# Altium schematic symbol library Socket Header WR-PHD_2.00 mm.SchLib: 62 symbols
Pins are listed as number, name and electrical type; pins without a type are passive.

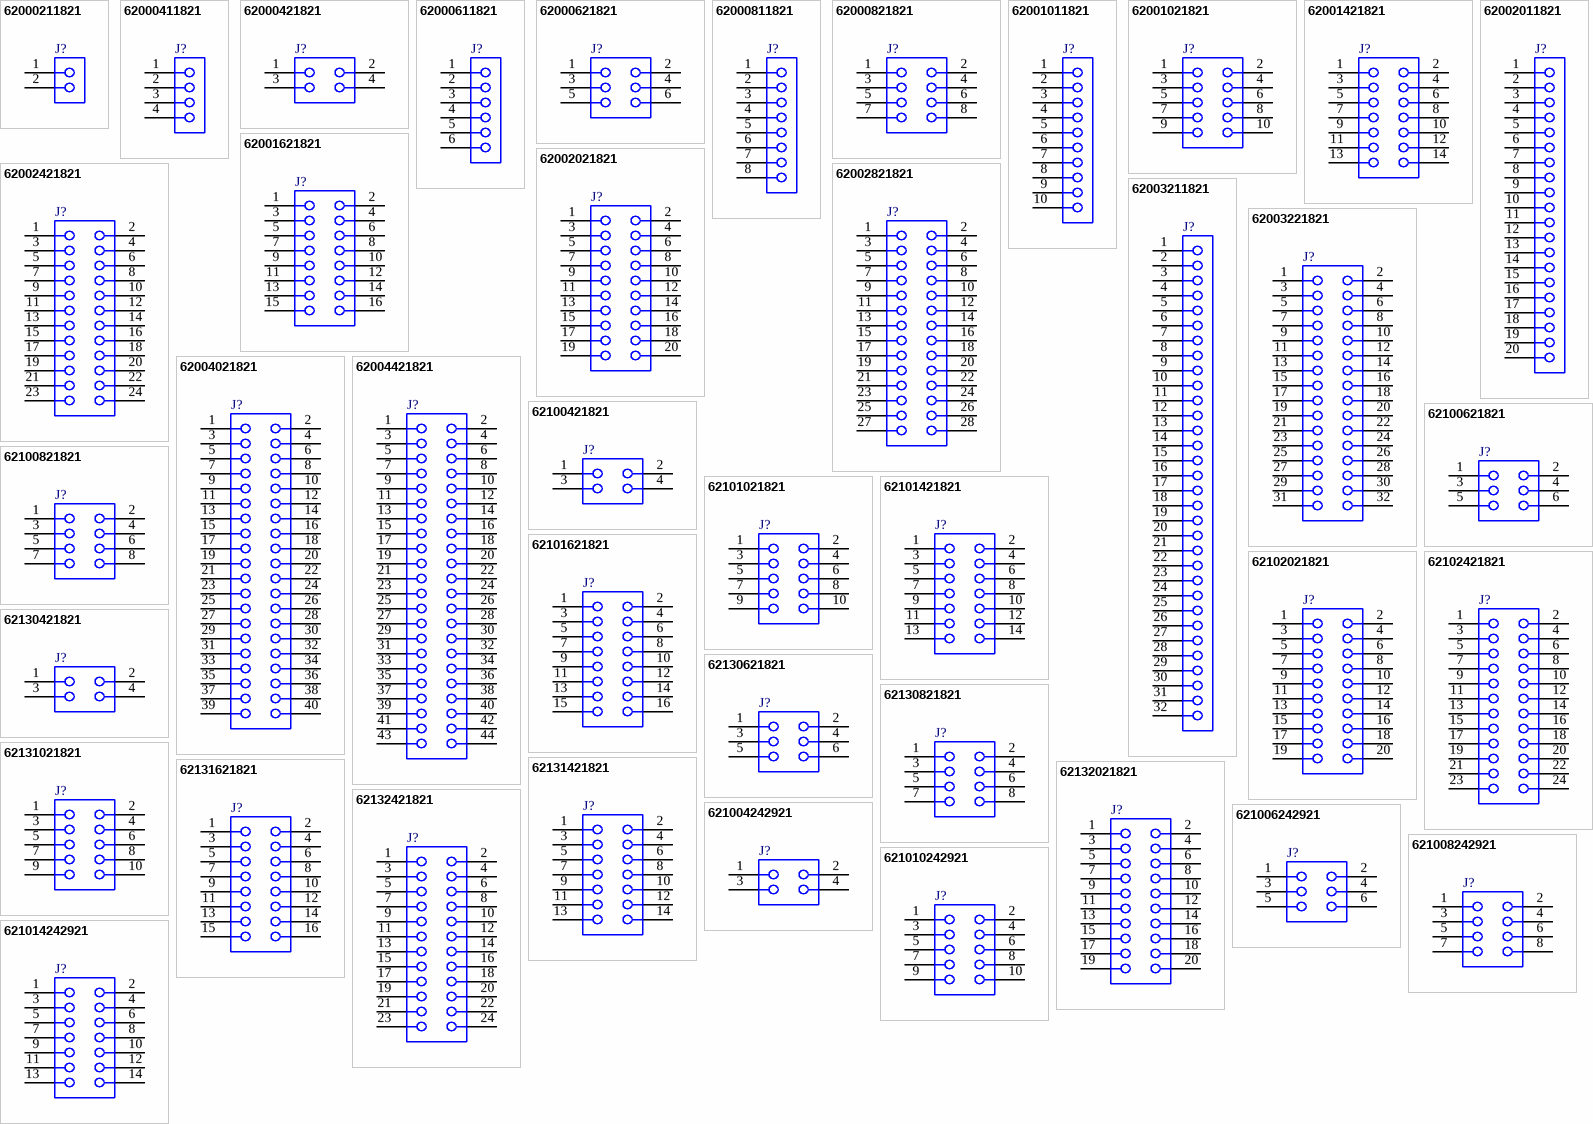
[diagram p0: symbols 62000211821 to 621014242921]

## 62000211821
designator J?
THT Vertical Socket Header WR-PHD, Pitch 2.00 mm, Single Row, 2 pins; Part Number: 62000211821; Pin Number: 2; Pitch: 2.00 mm; Gender: Female; Rated Current: 2 A; Working Voltage: 250 VAC; Withstanding Voltage: 500 VAC; Contact Resistance: 20 mOhm; ComponentLink1Description: Manufacturer; ComponentLink1URL: http://www.we-online.de; ComponentLink2Description: Datasheet; ComponentLink2URL: https://katalog.we-online.de/em/datasheet/62000211821.pdf; Published Date: August 2018; Publisher: Wurth Elektronik; Operating Temperature: -40 to 105 degC; Mounting Technology: THT; Packaging: Tube; Row Number: Single; Orientation: Vertical
footprint 62000211821 (Socket Header, Pitch 2.00 mm, THT, Vertical, single row, 2p)
pins: 1, 2

## 62000411821
designator J?
THT Vertical Socket Header WR-PHD, Pitch 2.00 mm, Single Row, 4 pins; Part Number: 62000411821; Pin Number: 4; Pitch: 2.00 mm; Gender: Female; Rated Current: 2 A; Working Voltage: 250 VAC; Withstanding Voltage: 500 VAC; Contact Resistance: 20 mOhm; ComponentLink1Description: Manufacturer; ComponentLink1URL: http://www.we-online.de; ComponentLink2Description: Datasheet; ComponentLink2URL: https://katalog.we-online.de/em/datasheet/62000411821.pdf; Published Date: August 2018; Publisher: Wurth Elektronik; Operating Temperature: -40 to 105 degC; Mounting Technology: THT; Packaging: Tube; Row Number: Single; Orientation: Vertical
footprint 62000411821
pins: 1, 2, 3, 4

## 62000421821
designator J?
THT Vertical Socket Header WR-PHD, Pitch 2.00 mm, Dual Row, 4 pins; Part Number: 62000421821; Pin Number: 4; Pitch: 2.00 mm; Gender: Female; Rated Current: 2 A; Working Voltage: 250 VAC; Withstanding Voltage: 500 VAC; Contact Resistance: 20 mOhm; ComponentLink1Description: Manufacturer; ComponentLink1URL: http://www.we-online.de; ComponentLink2Description: Datasheet; ComponentLink2URL: https://katalog.we-online.de/em/datasheet/62000421821.pdf; Published Date: August 2018; Publisher: Wurth Elektronik; Operating Temperature: -40 to 105 degC; Mounting Technology: THT; Packaging: Tube; Row Number: Dual; Orientation: Vertical
footprint 62000421821
pins: 1, 2, 3, 4

## 62000611821
designator J?
THT Vertical Socket Header WR-PHD, Pitch 2.00 mm, Single Row, 6 pins; Part Number: 62000611821; Pin Number: 6; Pitch: 2.00 mm; Gender: Female; Rated Current: 2 A; Working Voltage: 250 VAC; Withstanding Voltage: 500 VAC; Contact Resistance: 20 mOhm; ComponentLink1Description: Manufacturer; ComponentLink1URL: http://www.we-online.de; ComponentLink2Description: Datasheet; ComponentLink2URL: https://katalog.we-online.de/em/datasheet/62000611821.pdf; Published Date: August 2018; Publisher: Wurth Elektronik; Operating Temperature: -40 to 105 degC; Mounting Technology: THT; Packaging: Tube; Row Number: Single; Orientation: Vertical
footprint 62000611821
pins: 1, 2, 3, 4, 5, 6

## 62000621821
designator J?
THT Vertical Socket Header WR-PHD, Pitch 2.00 mm, Dual Row, 6 pins; Part Number: 62000621821; Pin Number: 6; Pitch: 2.00 mm; Gender: Female; Rated Current: 2 A; Working Voltage: 250 VAC; Withstanding Voltage: 500 VAC; Contact Resistance: 20 mOhm; ComponentLink1Description: Manufacturer; ComponentLink1URL: http://www.we-online.de; ComponentLink2Description: Datasheet; ComponentLink2URL: https://katalog.we-online.de/em/datasheet/62000621821.pdf; Published Date: August 2018; Publisher: Wurth Elektronik; Operating Temperature: -40 to 105 degC; Mounting Technology: THT; Packaging: Tube; Row Number: Dual; Orientation: Vertical
footprint 62000621821
pins: 1, 2, 3, 4, 5, 6

## 62000811821
designator J?
THT Vertical Socket Header WR-PHD, Pitch 2.00 mm, Single Row, 8 pins; Part Number: 62000811821; Pin Number: 8; Pitch: 2.00 mm; Gender: Female; Rated Current: 2 A; Working Voltage: 250 VAC; Withstanding Voltage: 500 VAC; Contact Resistance: 20 mOhm; ComponentLink1Description: Manufacturer; ComponentLink1URL: http://www.we-online.de; ComponentLink2Description: Datasheet; ComponentLink2URL: https://katalog.we-online.de/em/datasheet/62000811821.pdf; Published Date: August 2018; Publisher: Wurth Elektronik; Operating Temperature: -40 to 105 degC; Mounting Technology: THT; Packaging: Tube; Row Number: Single; Orientation: Vertical
footprint 62000811821
pins: 1, 2, 3, 4, 5, 6, 7, 8

## 62000821821
designator J?
THT Vertical Socket Header WR-PHD, Pitch 2.00 mm, Dual Row, 8 pins; Part Number: 62000821821; Pin Number: 8; Pitch: 2.00 mm; Gender: Female; Rated Current: 2 A; Working Voltage: 250 VAC; Withstanding Voltage: 500 VAC; Contact Resistance: 20 mOhm; ComponentLink1Description: Manufacturer; ComponentLink1URL: http://www.we-online.de; ComponentLink2Description: Datasheet; ComponentLink2URL: https://katalog.we-online.de/em/datasheet/62000821821.pdf; Published Date: August 2018; Publisher: Wurth Elektronik; Operating Temperature: -40 to 105 degC; Mounting Technology: THT; Packaging: Tube; Row Number: Dual; Orientation: Vertical
footprint 62000821821
pins: 1, 2, 3, 4, 5, 6, 7, 8

## 62001011821
designator J?
THT Vertical Socket Header WR-PHD, Pitch 2.00 mm, Single Row, 10 pins; Part Number: 62001011821; Pin Number: 10; Pitch: 2.00 mm; Gender: Female; Rated Current: 2 A; Working Voltage: 250 VAC; Withstanding Voltage: 500 VAC; Contact Resistance: 20 mOhm; ComponentLink1Description: Manufacturer; ComponentLink1URL: http://www.we-online.de; ComponentLink2Description: Datasheet; ComponentLink2URL: https://katalog.we-online.de/em/datasheet/62001011821.pdf; Published Date: August 2018; Publisher: Wurth Elektronik; Operating Temperature: -40 to 105 degC; Mounting Technology: THT; Packaging: Tube; Row Number: Single; Orientation: Vertical
footprint 62001011821
pins: 1, 2, 3, 4, 5, 6, 7, 8, 9, 10

## 62001021821
designator J?
THT Vertical Socket Header WR-PHD, Pitch 2.00 mm, Dual Row, 10 pins; Part Number: 62001021821; Pin Number: 10; Pitch: 2.00 mm; Gender: Female; Rated Current: 2 A; Working Voltage: 250 VAC; Withstanding Voltage: 500 VAC; Contact Resistance: 20 mOhm; ComponentLink1Description: Manufacturer; ComponentLink1URL: http://www.we-online.de; ComponentLink2Description: Datasheet; ComponentLink2URL: https://katalog.we-online.de/em/datasheet/62001021821.pdf; Published Date: August 2018; Publisher: Wurth Elektronik; Operating Temperature: -40 to 105 degC; Mounting Technology: THT; Packaging: Tube; Row Number: Dual; Orientation: Vertical
footprint 62001021821
pins: 1, 2, 3, 4, 5, 6, 7, 8, 9, 10

## 62001421821
designator J?
THT Vertical Socket Header WR-PHD, Pitch 2.00 mm, Dual Row, 14 pins; Part Number: 62001421821; Pin Number: 14; Pitch: 2.00 mm; Gender: Female; Rated Current: 2 A; Working Voltage: 250 VAC; Withstanding Voltage: 500 VAC; Contact Resistance: 20 mOhm; ComponentLink1Description: Manufacturer; ComponentLink1URL: http://www.we-online.de; ComponentLink2Description: Datasheet; ComponentLink2URL: https://katalog.we-online.de/em/datasheet/62001421821.pdf; Published Date: August 2018; Publisher: Wurth Elektronik; Operating Temperature: -40 to 105 degC; Mounting Technology: THT; Packaging: Tube; Row Number: Dual; Orientation: Vertical
footprint 62001421821
pins: 1, 2, 3, 4, 5, 6, 7, 8, 9, 10, 11, 12, 13, 14

## 62001621821
designator J?
THT Vertical Socket Header WR-PHD, Pitch 2.00 mm, Dual Row, 16 pins; Part Number: 62001621821; Pin Number: 16; Pitch: 2.00 mm; Gender: Female; Rated Current: 2 A; Working Voltage: 250 VAC; Withstanding Voltage: 500 VAC; Contact Resistance: 20 mOhm; ComponentLink1Description: Manufacturer; ComponentLink1URL: http://www.we-online.de; ComponentLink2Description: Datasheet; ComponentLink2URL: https://katalog.we-online.de/em/datasheet/62001621821.pdf; Published Date: August 2018; Publisher: Wurth Elektronik; Operating Temperature: -40 to 105 degC; Mounting Technology: THT; Packaging: Tube; Row Number: Dual; Orientation: Vertical
footprint 62001621821
pins: 1, 2, 3, 4, 5, 6, 7, 8, 9, 10, 11, 12, 13, 14, 15, 16

## 62002011821
designator J?
THT Vertical Socket Header WR-PHD, Pitch 2.00 mm, Single Row, 20 pins; Part Number: 62002011821; Pin Number: 20; Pitch: 2.00 mm; Gender: Female; Rated Current: 2 A; Working Voltage: 250 VAC; Withstanding Voltage: 500 VAC; Contact Resistance: 20 mOhm; ComponentLink1Description: Manufacturer; ComponentLink1URL: http://www.we-online.de; ComponentLink2Description: Datasheet; ComponentLink2URL: https://katalog.we-online.de/em/datasheet/62002011821.pdf; Published Date: August 2018; Publisher: Wurth Elektronik; Operating Temperature: -40 to 105 degC; Mounting Technology: THT; Packaging: Tube; Row Number: Single; Orientation: Vertical
footprint 62002011821
pins: 1, 2, 3, 4, 5, 6, 7, 8, 9, 10, 11, 12, 13, 14, 15, 16, 17, 18, 19, 20

## 62002021821
designator J?
THT Vertical Socket Header WR-PHD, Pitch 2.00 mm, Dual Row, 20 pins; Part Number: 62002021821; Pin Number: 20; Pitch: 2.00 mm; Gender: Female; Rated Current: 2 A; Working Voltage: 250 VAC; Withstanding Voltage: 500 VAC; Contact Resistance: 20 mOhm; ComponentLink1Description: Manufacturer; ComponentLink1URL: http://www.we-online.de; ComponentLink2Description: Datasheet; ComponentLink2URL: https://katalog.we-online.de/em/datasheet/62002021821.pdf; Published Date: August 2018; Publisher: Wurth Elektronik; Operating Temperature: -40 to 105 degC; Mounting Technology: THT; Packaging: Tube; Row Number: Dual; Orientation: Vertical
footprint 62002021821
pins: 1, 2, 3, 4, 5, 6, 7, 8, 9, 10, 11, 12, 13, 14, 15, 16, 17, 18, 19, 20

## 62002421821
designator J?
THT Vertical Socket Header WR-PHD, Pitch 2.00 mm, Dual Row, 24 pins; Part Number: 62002421821; Pin Number: 24; Pitch: 2.00 mm; Gender: Female; Rated Current: 2 A; Working Voltage: 250 VAC; Withstanding Voltage: 500 VAC; Contact Resistance: 20 mOhm; ComponentLink1Description: Manufacturer; ComponentLink1URL: http://www.we-online.de; ComponentLink2Description: Datasheet; ComponentLink2URL: https://katalog.we-online.de/em/datasheet/62002421821.pdf; Published Date: August 2018; Publisher: Wurth Elektronik; Operating Temperature: -40 to 105 degC; Mounting Technology: THT; Packaging: Tube; Row Number: Dual; Orientation: Vertical
footprint 62002421821
pins: 1, 2, 3, 4, 5, 6, 7, 8, 9, 10, 11, 12, 13, 14, 15, 16, 17, 18, 19, 20, 21, 22, 23, 24

## 62002821821
designator J?
THT Vertical Socket Header WR-PHD, Pitch 2.00 mm, Dual Row, 28 pins; Part Number: 62002821821; Pin Number: 28; Pitch: 2.00 mm; Gender: Female; Rated Current: 2 A; Working Voltage: 250 VAC; Withstanding Voltage: 500 VAC; Contact Resistance: 20 mOhm; ComponentLink1Description: Manufacturer; ComponentLink1URL: http://www.we-online.de; ComponentLink2Description: Datasheet; ComponentLink2URL: https://katalog.we-online.de/em/datasheet/62002821821.pdf; Published Date: August 2018; Publisher: Wurth Elektronik; Operating Temperature: -40 to 105 degC; Mounting Technology: THT; Packaging: Tube; Row Number: Dual; Orientation: Vertical
footprint 62002821821
pins: 1, 2, 3, 4, 5, 6, 7, 8, 9, 10, 11, 12, 13, 14, 15, 16, 17, 18, 19, 20, 21, 22, 23, 24, 25, 26, 27, 28

## 62003211821
designator J?
THT Vertical Socket Header WR-PHD, Pitch 2.00 mm, Single Row, 32 pins; Part Number: 62003211821; Pin Number: 32; Pitch: 2.00 mm; Gender: Female; Rated Current: 2 A; Working Voltage: 250 VAC; Withstanding Voltage: 500 VAC; Contact Resistance: 20 mOhm; ComponentLink1Description: Manufacturer; ComponentLink1URL: http://www.we-online.de; ComponentLink2Description: Datasheet; ComponentLink2URL: https://katalog.we-online.de/em/datasheet/62003211821.pdf; Published Date: August 2018; Publisher: Wurth Elektronik; Operating Temperature: -40 to 105 degC; Mounting Technology: THT; Packaging: Tube; Row Number: Single; Orientation: Vertical
footprint 62003211821
pins: 1, 2, 3, 4, 5, 6, 7, 8, 9, 10, 11, 12, 13, 14, 15, 16, 17, 18, 19, 20, 21, 22, 23, 24, 25, 26, 27, 28, 29, 30, 31, 32

## 62003221821
designator J?
THT Vertical Socket Header WR-PHD, Pitch 2.00 mm, Dual Row, 32 pins; Part Number: 62003221821; Pin Number: 32; Pitch: 2.00 mm; Gender: Female; Rated Current: 2 A; Working Voltage: 250 VAC; Withstanding Voltage: 500 VAC; Contact Resistance: 20 mOhm; ComponentLink1Description: Manufacturer; ComponentLink1URL: http://www.we-online.de; ComponentLink2Description: Datasheet; ComponentLink2URL: https://katalog.we-online.de/em/datasheet/62003221821.pdf; Published Date: August 2018; Publisher: Wurth Elektronik; Operating Temperature: -40 to 105 degC; Mounting Technology: THT; Packaging: Tube; Row Number: Dual; Orientation: Vertical
footprint 62003221821
pins: 1, 2, 3, 4, 5, 6, 7, 8, 9, 10, 11, 12, 13, 14, 15, 16, 17, 18, 19, 20, 21, 22, 23, 24, 25, 26, 27, 28, 29, 30, 31, 32

## 62004021821
designator J?
THT Vertical Socket Header WR-PHD, Pitch 2.00 mm, Dual Row, 40 pins; Part Number: 62004021821; Pin Number: 40; Pitch: 2.00 mm; Gender: Female; Rated Current: 2 A; Working Voltage: 250 VAC; Withstanding Voltage: 500 VAC; Contact Resistance: 20 mOhm; ComponentLink1Description: Manufacturer; ComponentLink1URL: http://www.we-online.de; ComponentLink2Description: Datasheet; ComponentLink2URL: https://katalog.we-online.de/em/datasheet/62004021821.pdf; Published Date: August 2018; Publisher: Wurth Elektronik; Operating Temperature: -40 to 105 degC; Mounting Technology: THT; Packaging: Tube; Row Number: Dual; Orientation: Vertical
footprint 62004021821
pins: 1, 2, 3, 4, 5, 6, 7, 8, 9, 10, 11, 12, 13, 14, 15, 16, 17, 18, 19, 20, 21, 22, 23, 24, 25, 26, 27, 28, 29, 30, 31, 32, 33, 34, 35, 36, 37, 38, 39, 40

## 62004421821
designator J?
THT Vertical Socket Header WR-PHD, Pitch 2.00 mm, Dual Row, 44 pins; Part Number: 62004421821; Pin Number: 44; Pitch: 2.00 mm; Gender: Female; Rated Current: 2 A; Working Voltage: 250 VAC; Withstanding Voltage: 500 VAC; Contact Resistance: 20 mOhm; ComponentLink1Description: Manufacturer; ComponentLink1URL: http://www.we-online.de; ComponentLink2Description: Datasheet; ComponentLink2URL: https://katalog.we-online.de/em/datasheet/62004421821.pdf; Published Date: August 2018; Publisher: Wurth Elektronik; Operating Temperature: -40 to 105 degC; Mounting Technology: THT; Packaging: Tube; Row Number: Dual; Orientation: Vertical
footprint 62004421821
pins: 1, 2, 3, 4, 5, 6, 7, 8, 9, 10, 11, 12, 13, 14, 15, 16, 17, 18, 19, 20, 21, 22, 23, 24, 25, 26, 27, 28, 29, 30, 31, 32, 33, 34, 35, 36, 37, 38, 39, 40, 41, 42, 43, 44

## 62100421821
designator J?
SMT Vertical Socket Header Low Profile WR-PHD, Pitch 2.00 mm, Dual Row, 4 pins; Part Number: 62100421821; Pin Number: 4; Pitch: 2.00 mm; Gender: Female; Rated Current: 2 A; Working Voltage: 250 VAC; Withstanding Voltage: 500 VAC; Contact Resistance: 20 mOhm; ComponentLink1Description: Manufacturer; ComponentLink1URL: http://www.we-online.de; ComponentLink2Description: Datasheet; ComponentLink2URL: https://katalog.we-online.de/em/datasheet/62100421821.pdf; Published Date: August 2018; Publisher: Wurth Elektronik; Operating Temperature: -40 to 105 degC; Mounting Technology: SMT; Packaging: Tube; Row Number: Dual; Orientation: Vertical
footprint 62100421821
pins: 1, 2, 3, 4

## 62100621821
designator J?
SMT Vertical Socket Header Low Profile WR-PHD, Pitch 2.00 mm, Dual Row, 6 pins; Part Number: 62100621821; Pin Number: 6; Pitch: 2.00 mm; Gender: Female; Rated Current: 2 A; Working Voltage: 250 VAC; Withstanding Voltage: 500 VAC; Contact Resistance: 20 mOhm; ComponentLink1Description: Manufacturer; ComponentLink1URL: http://www.we-online.de; ComponentLink2Description: Datasheet; ComponentLink2URL: https://katalog.we-online.de/em/datasheet/62100621821.pdf; Published Date: August 2018; Publisher: Wurth Elektronik; Operating Temperature: -40 to 105 degC; Mounting Technology: SMT; Packaging: Tube; Row Number: Dual; Orientation: Vertical
footprint 62100621821
pins: 1, 2, 3, 4, 5, 6

## 62100821821
designator J?
SMT Vertical Socket Header Low Profile WR-PHD, Pitch 2.00 mm, Dual Row, 8 pins; Part Number: 62100821821; Pin Number: 8; Pitch: 2.00 mm; Gender: Female; Rated Current: 2 A; Working Voltage: 250 VAC; Withstanding Voltage: 500 VAC; Contact Resistance: 20 mOhm; ComponentLink1Description: Manufacturer; ComponentLink1URL: http://www.we-online.de; ComponentLink2Description: Datasheet; ComponentLink2URL: https://katalog.we-online.de/em/datasheet/62100821821.pdf; Published Date: August 2018; Publisher: Wurth Elektronik; Operating Temperature: -40 to 105 degC; Mounting Technology: SMT; Packaging: Tube; Row Number: Dual; Orientation: Vertical
footprint 62100821821
pins: 1, 2, 3, 4, 5, 6, 7, 8

## 62101021821
designator J?
SMT Vertical Socket Header Low Profile WR-PHD, Pitch 2.00 mm, Dual Row, 10 pins; Part Number: 62101021821; Pin Number: 10; Pitch: 2.00 mm; Gender: Female; Rated Current: 2 A; Working Voltage: 250 VAC; Withstanding Voltage: 500 VAC; Contact Resistance: 20 mOhm; ComponentLink1Description: Manufacturer; ComponentLink1URL: http://www.we-online.de; ComponentLink2Description: Datasheet; ComponentLink2URL: https://katalog.we-online.de/em/datasheet/62101021821.pdf; Published Date: August 2018; Publisher: Wurth Elektronik; Operating Temperature: -40 to 105 degC; Mounting Technology: SMT; Packaging: Tube; Row Number: Dual; Orientation: Vertical
footprint 62101021821
pins: 1, 2, 3, 4, 5, 6, 7, 8, 9, 10

## 62101421821
designator J?
SMT Vertical Socket Header Low Profile WR-PHD, Pitch 2.00 mm, Dual Row, 14 pins; Part Number: 62101421821; Pin Number: 14; Pitch: 2.00 mm; Gender: Female; Rated Current: 2 A; Working Voltage: 250 VAC; Withstanding Voltage: 500 VAC; Contact Resistance: 20 mOhm; ComponentLink1Description: Manufacturer; ComponentLink1URL: http://www.we-online.de; ComponentLink2Description: Datasheet; ComponentLink2URL: https://katalog.we-online.de/em/datasheet/62101421821.pdf; Published Date: August 2018; Publisher: Wurth Elektronik; Operating Temperature: -40 to 105 degC; Mounting Technology: SMT; Packaging: Tube; Row Number: Dual; Orientation: Vertical
footprint 62101421821
pins: 1, 2, 3, 4, 5, 6, 7, 8, 9, 10, 11, 12, 13, 14

## 62101621821
designator J?
SMT Vertical Socket Header Low Profile WR-PHD, Pitch 2.00 mm, Dual Row, 16 pins; Part Number: 62101621821; Pin Number: 16; Pitch: 2.00 mm; Gender: Female; Rated Current: 2 A; Working Voltage: 250 VAC; Withstanding Voltage: 500 VAC; Contact Resistance: 20 mOhm; ComponentLink1Description: Manufacturer; ComponentLink1URL: http://www.we-online.de; ComponentLink2Description: Datasheet; ComponentLink2URL: https://katalog.we-online.de/em/datasheet/62101621821.pdf; Published Date: August 2018; Publisher: Wurth Elektronik; Operating Temperature: -40 to 105 degC; Mounting Technology: SMT; Packaging: Tube; Row Number: Dual; Orientation: Vertical
footprint 62101621821
pins: 1, 2, 3, 4, 5, 6, 7, 8, 9, 10, 11, 12, 13, 14, 15, 16

## 62102021821
designator J?
SMT Vertical Socket Header Low Profile WR-PHD, Pitch 2.00 mm, Dual Row, 20 pins; Part Number: 62102021821; Pin Number: 20; Pitch: 2.00 mm; Gender: Female; Rated Current: 2 A; Working Voltage: 250 VAC; Withstanding Voltage: 500 VAC; Contact Resistance: 20 mOhm; ComponentLink1Description: Manufacturer; ComponentLink1URL: http://www.we-online.de; ComponentLink2Description: Datasheet; ComponentLink2URL: https://katalog.we-online.de/em/datasheet/62102021821.pdf; Published Date: August 2018; Publisher: Wurth Elektronik; Operating Temperature: -40 to 105 degC; Mounting Technology: SMT; Packaging: Tube; Row Number: Dual; Orientation: Vertical
footprint 62102021821
pins: 1, 2, 3, 4, 5, 6, 7, 8, 9, 10, 11, 12, 13, 14, 15, 16, 17, 18, 19, 20

## 62102421821
designator J?
SMT Vertical Socket Header Low Profile WR-PHD, Pitch 2.00 mm, Dual Row, 24 pins; Part Number: 62102421821; Pin Number: 24; Pitch: 2.00 mm; Gender: Female; Rated Current: 2 A; Working Voltage: 250 VAC; Withstanding Voltage: 500 VAC; Contact Resistance: 20 mOhm; ComponentLink1Description: Manufacturer; ComponentLink1URL: http://www.we-online.de; ComponentLink2Description: Datasheet; ComponentLink2URL: https://katalog.we-online.de/em/datasheet/62102421821.pdf; Published Date: August 2018; Publisher: Wurth Elektronik; Operating Temperature: -40 to 105 degC; Mounting Technology: SMT; Packaging: Tube; Row Number: Dual; Orientation: Vertical
footprint 62102421821
pins: 1, 2, 3, 4, 5, 6, 7, 8, 9, 10, 11, 12, 13, 14, 15, 16, 17, 18, 19, 20, 21, 22, 23, 24

## 62130421821
designator J?
SMT Vertical Socket Header Low Profile WR-PHD, Pitch 2.00 mm, Dual Row, 4 pins; Part Number: 62130421821; Pin Number: 4; Pitch: 2.00 mm; Gender: Female; Rated Current: 2 A; Working Voltage: 250 VAC; Withstanding Voltage: 500 VAC; Contact Resistance: 20 mOhm; ComponentLink1Description: Manufacturer; ComponentLink1URL: http://www.we-online.de; ComponentLink2Description: Datasheet; ComponentLink2URL: https://katalog.we-online.de/em/datasheet/62130421821.pdf; Published Date: August 2018; Publisher: Wurth Elektronik; Operating Temperature: -40 to 105 degC; Mounting Technology: SMT; Packaging: Tape and Reel; Row Number: Dual; Orientation: Vertical
footprint 62130421821
pins: 1, 2, 3, 4

## 62130621821
designator J?
SMT Vertical Socket Header Low Profile WR-PHD, Pitch 2.00 mm, Dual Row, 6 pins; Part Number: 62130621821; Pin Number: 6; Pitch: 2.00 mm; Gender: Female; Rated Current: 2 A; Working Voltage: 250 VAC; Withstanding Voltage: 500 VAC; Contact Resistance: 20 mOhm; ComponentLink1Description: Manufacturer; ComponentLink1URL: http://www.we-online.de; ComponentLink2Description: Datasheet; ComponentLink2URL: https://katalog.we-online.de/em/datasheet/62130621821.pdf; Published Date: August 2018; Publisher: Wurth Elektronik; Operating Temperature: -40 to 105 degC; Mounting Technology: SMT; Packaging: Tape and Reel; Row Number: Dual; Orientation: Vertical
footprint 62130621821
pins: 1, 2, 3, 4, 5, 6

## 62130821821
designator J?
SMT Vertical Socket Header Low Profile WR-PHD, Pitch 2.00 mm, Dual Row, 8 pins; Part Number: 62130821821; Pin Number: 8; Pitch: 2.00 mm; Gender: Female; Rated Current: 2 A; Working Voltage: 250 VAC; Withstanding Voltage: 500 VAC; Contact Resistance: 20 mOhm; ComponentLink1Description: Manufacturer; ComponentLink1URL: http://www.we-online.de; ComponentLink2Description: Datasheet; ComponentLink2URL: https://katalog.we-online.de/em/datasheet/62130821821.pdf; Published Date: August 2018; Publisher: Wurth Elektronik; Operating Temperature: -40 to 105 degC; Mounting Technology: SMT; Packaging: Tape and Reel; Row Number: Dual; Orientation: Vertical
footprint 62130821821
pins: 1, 2, 3, 4, 5, 6, 7, 8

## 62131021821
designator J?
SMT Vertical Socket Header Low Profile WR-PHD, Pitch 2.00 mm, Dual Row, 10 pins; Part Number: 62131021821; Pin Number: 10; Pitch: 2.00 mm; Gender: Female; Rated Current: 2 A; Working Voltage: 250 VAC; Withstanding Voltage: 500 VAC; Contact Resistance: 20 mOhm; ComponentLink1Description: Manufacturer; ComponentLink1URL: http://www.we-online.de; ComponentLink2Description: Datasheet; ComponentLink2URL: https://katalog.we-online.de/em/datasheet/62131021821.pdf; Published Date: August 2018; Publisher: Wurth Elektronik; Operating Temperature: -40 to 105 degC; Mounting Technology: SMT; Packaging: Tape and Reel; Row Number: Dual; Orientation: Vertical
footprint 62131021821
pins: 1, 2, 3, 4, 5, 6, 7, 8, 9, 10

## 62131421821
designator J?
SMT Vertical Socket Header Low Profile WR-PHD, Pitch 2.00 mm, Dual Row, 14 pins; Part Number: 62131421821; Pin Number: 14; Pitch: 2.00 mm; Gender: Female; Rated Current: 2 A; Working Voltage: 250 VAC; Withstanding Voltage: 500 VAC; Contact Resistance: 20 mOhm; ComponentLink1Description: Manufacturer; ComponentLink1URL: http://www.we-online.de; ComponentLink2Description: Datasheet; ComponentLink2URL: https://katalog.we-online.de/em/datasheet/62131421821.pdf; Published Date: August 2018; Publisher: Wurth Elektronik; Operating Temperature: -40 to 105 degC; Mounting Technology: SMT; Packaging: Tape and Reel; Row Number: Dual; Orientation: Vertical
footprint 62131421821
pins: 1, 2, 3, 4, 5, 6, 7, 8, 9, 10, 11, 12, 13, 14

## 62131621821
designator J?
SMT Vertical Socket Header Low Profile WR-PHD, Pitch 2.00 mm, Dual Row, 16 pins; Part Number: 62131621821; Pin Number: 16; Pitch: 2.00 mm; Gender: Female; Rated Current: 2 A; Working Voltage: 250 VAC; Withstanding Voltage: 500 VAC; Contact Resistance: 20 mOhm; ComponentLink1Description: Manufacturer; ComponentLink1URL: http://www.we-online.de; ComponentLink2Description: Datasheet; ComponentLink2URL: https://katalog.we-online.de/em/datasheet/62131621821.pdf; Published Date: August 2018; Publisher: Wurth Elektronik; Operating Temperature: -40 to 105 degC; Mounting Technology: SMT; Packaging: Tape and Reel; Row Number: Dual; Orientation: Vertical
footprint 62131621821
pins: 1, 2, 3, 4, 5, 6, 7, 8, 9, 10, 11, 12, 13, 14, 15, 16

## 62132021821
designator J?
SMT Vertical Socket Header Low Profile WR-PHD, Pitch 2.00 mm, Dual Row, 20 pins; Part Number: 62132021821; Pin Number: 20; Pitch: 2.00 mm; Gender: Female; Rated Current: 2 A; Working Voltage: 250 VAC; Withstanding Voltage: 500 VAC; Contact Resistance: 20 mOhm; ComponentLink1Description: Manufacturer; ComponentLink1URL: http://www.we-online.de; ComponentLink2Description: Datasheet; ComponentLink2URL: https://katalog.we-online.de/em/datasheet/62132021821.pdf; Published Date: August 2018; Publisher: Wurth Elektronik; Operating Temperature: -40 to 105 degC; Mounting Technology: SMT; Packaging: Tape and Reel; Row Number: Dual; Orientation: Vertical
footprint 62132021821
pins: 1, 2, 3, 4, 5, 6, 7, 8, 9, 10, 11, 12, 13, 14, 15, 16, 17, 18, 19, 20

## 62132421821
designator J?
SMT Vertical Socket Header Low Profile WR-PHD, Pitch 2.00 mm, Dual Row, 24 pins; Part Number: 62132421821; Pin Number: 24; Pitch: 2.00 mm; Gender: Female; Rated Current: 2 A; Working Voltage: 250 VAC; Withstanding Voltage: 500 VAC; Contact Resistance: 20 mOhm; ComponentLink1Description: Manufacturer; ComponentLink1URL: http://www.we-online.de; ComponentLink2Description: Datasheet; ComponentLink2URL: https://katalog.we-online.de/em/datasheet/62132421821.pdf; Published Date: August 2018; Publisher: Wurth Elektronik; Operating Temperature: -40 to 105 degC; Mounting Technology: SMT; Packaging: Tape and Reel; Row Number: Dual; Orientation: Vertical
footprint 62132421821
pins: 1, 2, 3, 4, 5, 6, 7, 8, 9, 10, 11, 12, 13, 14, 15, 16, 17, 18, 19, 20, 21, 22, 23, 24

## 621004242921
designator J?
SMT Vertical Socket Header WR-PHD, Pitch 2.00 mm, Dual Row, 4 pins; Part Number: 621004242921; Pin Number: 4; Pitch: 2.00 mm; Gender: Female; Rated Current: 2 A; Working Voltage: 250 VAC; Withstanding Voltage: 500 VAC; Contact Resistance: 20 mOhm; ComponentLink1Description: Manufacturer; ComponentLink1URL: http://www.we-online.de; ComponentLink2Description: Datasheet; ComponentLink2URL: https://katalog.we-online.de/em/datasheet/621004242921.pdf; Published Date: August 2018; Publisher: Wurth Elektronik; Operating Temperature: -40 to 105 degC; Mounting Technology: SMT; Packaging: Tube; Row Number: Dual; Orientation: Vertical
footprint 621004242921
pins: 1, 2, 3, 4

## 621006242921
designator J?
SMT Vertical Socket Header WR-PHD, Pitch 2.00 mm, Dual Row, 6 pins; Part Number: 621006242921; Pin Number: 6; Pitch: 2.00 mm; Gender: Female; Rated Current: 2 A; Working Voltage: 250 VAC; Withstanding Voltage: 500 VAC; Contact Resistance: 20 mOhm; ComponentLink1Description: Manufacturer; ComponentLink1URL: http://www.we-online.de; ComponentLink2Description: Datasheet; ComponentLink2URL: https://katalog.we-online.de/em/datasheet/621006242921.pdf; Published Date: August 2018; Publisher: Wurth Elektronik; Operating Temperature: -40 to 105 degC; Mounting Technology: SMT; Packaging: Tube; Row Number: Dual; Orientation: Vertical
footprint 621006242921
pins: 1, 2, 3, 4, 5, 6

## 621008242921
designator J?
SMT Vertical Socket Header WR-PHD, Pitch 2.00 mm, Dual Row, 8 pins; Part Number: 621008242921; Pin Number: 8; Pitch: 2.00 mm; Gender: Female; Rated Current: 2 A; Working Voltage: 250 VAC; Withstanding Voltage: 500 VAC; Contact Resistance: 20 mOhm; ComponentLink1Description: Manufacturer; ComponentLink1URL: http://www.we-online.de; ComponentLink2Description: Datasheet; ComponentLink2URL: https://katalog.we-online.de/em/datasheet/621008242921.pdf; Published Date: August 2018; Publisher: Wurth Elektronik; Operating Temperature: -40 to 105 degC; Mounting Technology: SMT; Packaging: Tube; Row Number: Dual; Orientation: Vertical
footprint 621008242921
pins: 1, 2, 3, 4, 5, 6, 7, 8

## 621010242921
designator J?
SMT Vertical Socket Header WR-PHD, Pitch 2.00 mm, Dual Row, 10 pins; Part Number: 621010242921; Pin Number: 10; Pitch: 2.00 mm; Gender: Female; Rated Current: 2 A; Working Voltage: 250 VAC; Withstanding Voltage: 500 VAC; Contact Resistance: 20 mOhm; ComponentLink1Description: Manufacturer; ComponentLink1URL: http://www.we-online.de; ComponentLink2Description: Datasheet; ComponentLink2URL: https://katalog.we-online.de/em/datasheet/621010242921.pdf; Published Date: August 2018; Publisher: Wurth Elektronik; Operating Temperature: -40 to 105 degC; Mounting Technology: SMT; Packaging: Tube; Row Number: Dual; Orientation: Vertical
footprint 621010242921
pins: 1, 2, 3, 4, 5, 6, 7, 8, 9, 10

## 621014242921
designator J?
SMT Vertical Socket Header WR-PHD, Pitch 2.00 mm, Dual Row, 14 pins; Part Number: 621014242921; Pin Number: 14; Pitch: 2.00 mm; Gender: Female; Rated Current: 2 A; Working Voltage: 250 VAC; Withstanding Voltage: 500 VAC; Contact Resistance: 20 mOhm; ComponentLink1Description: Manufacturer; ComponentLink1URL: http://www.we-online.de; ComponentLink2Description: Datasheet; ComponentLink2URL: https://katalog.we-online.de/em/datasheet/621014242921.pdf; Published Date: August 2018; Publisher: Wurth Elektronik; Operating Temperature: -40 to 105 degC; Mounting Technology: SMT; Packaging: Tube; Row Number: Dual; Orientation: Vertical
footprint 621014242921
pins: 1, 2, 3, 4, 5, 6, 7, 8, 9, 10, 11, 12, 13, 14

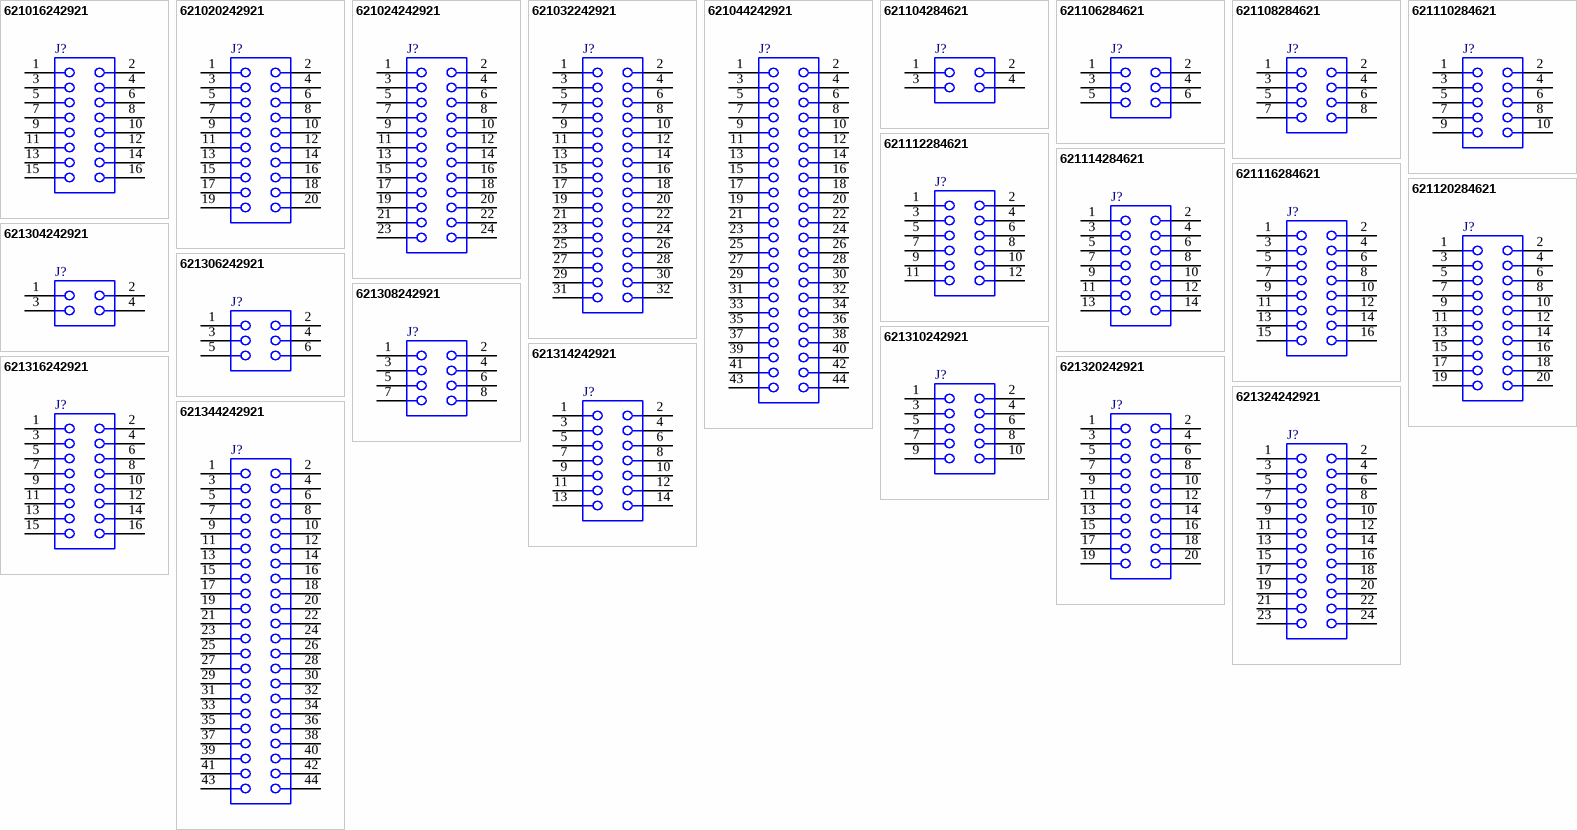
[diagram p1: symbols 621016242921 to 621344242921]

## 621016242921
designator J?
SMT Vertical Socket Header WR-PHD, Pitch 2.00 mm, Dual Row, 16 pins; Part Number: 621016242921; Pin Number: 16; Pitch: 2.00 mm; Gender: Female; Rated Current: 2 A; Working Voltage: 250 VAC; Withstanding Voltage: 500 VAC; Contact Resistance: 20 mOhm; ComponentLink1Description: Manufacturer; ComponentLink1URL: http://www.we-online.de; ComponentLink2Description: Datasheet; ComponentLink2URL: https://katalog.we-online.de/em/datasheet/621016242921.pdf; Published Date: August 2018; Publisher: Wurth Elektronik; Operating Temperature: -40 to 105 degC; Mounting Technology: SMT; Packaging: Tube; Row Number: Dual; Orientation: Vertical
footprint 621016242921
pins: 1, 2, 3, 4, 5, 6, 7, 8, 9, 10, 11, 12, 13, 14, 15, 16

## 621020242921
designator J?
SMT Vertical Socket Header WR-PHD, Pitch 2.00 mm, Dual Row, 20 pins; Part Number: 621020242921; Pin Number: 20; Pitch: 2.00 mm; Gender: Female; Rated Current: 2 A; Working Voltage: 250 VAC; Withstanding Voltage: 500 VAC; Contact Resistance: 20 mOhm; ComponentLink1Description: Manufacturer; ComponentLink1URL: http://www.we-online.de; ComponentLink2Description: Datasheet; ComponentLink2URL: https://katalog.we-online.de/em/datasheet/621020242921.pdf; Published Date: August 2018; Publisher: Wurth Elektronik; Operating Temperature: -40 to 105 degC; Mounting Technology: SMT; Packaging: Tube; Row Number: Dual; Orientation: Vertical
footprint 621020242921
pins: 1, 2, 3, 4, 5, 6, 7, 8, 9, 10, 11, 12, 13, 14, 15, 16, 17, 18, 19, 20

## 621024242921
designator J?
SMT Vertical Socket Header WR-PHD, Pitch 2.00 mm, Dual Row, 24 pins; Part Number: 621024242921; Pin Number: 24; Pitch: 2.00 mm; Gender: Female; Rated Current: 2 A; Working Voltage: 250 VAC; Withstanding Voltage: 500 VAC; Contact Resistance: 20 mOhm; ComponentLink1Description: Manufacturer; ComponentLink1URL: http://www.we-online.de; ComponentLink2Description: Datasheet; ComponentLink2URL: https://katalog.we-online.de/em/datasheet/621024242921.pdf; Published Date: August 2018; Publisher: Wurth Elektronik; Operating Temperature: -40 to 105 degC; Mounting Technology: SMT; Packaging: Tube; Row Number: Dual; Orientation: Vertical
footprint 621024242921
pins: 1, 2, 3, 4, 5, 6, 7, 8, 9, 10, 11, 12, 13, 14, 15, 16, 17, 18, 19, 20, 21, 22, 23, 24

## 621032242921
designator J?
SMT Vertical Socket Header WR-PHD, Pitch 2.00 mm, Dual Row, 32 pins; Part Number: 621032242921; Pin Number: 32; Pitch: 2.00 mm; Gender: Female; Rated Current: 2 A; Working Voltage: 250 VAC; Withstanding Voltage: 500 VAC; Contact Resistance: 20 mOhm; ComponentLink1Description: Manufacturer; ComponentLink1URL: http://www.we-online.de; ComponentLink2Description: Datasheet; ComponentLink2URL: https://katalog.we-online.de/em/datasheet/621032242921.pdf; Published Date: August 2018; Publisher: Wurth Elektronik; Operating Temperature: -40 to 105 degC; Mounting Technology: SMT; Packaging: Tube; Row Number: Dual; Orientation: Vertical
footprint 621032242921
pins: 1, 2, 3, 4, 5, 6, 7, 8, 9, 10, 11, 12, 13, 14, 15, 16, 17, 18, 19, 20, 21, 22, 23, 24, 25, 26, 27, 28, 29, 30, 31, 32

## 621044242921
designator J?
SMT Vertical Socket Header WR-PHD, Pitch 2.00 mm, Dual Row, 44 pins; Part Number: 621044242921; Pin Number: 44; Pitch: 2.00 mm; Gender: Female; Rated Current: 2 A; Working Voltage: 250 VAC; Withstanding Voltage: 500 VAC; Contact Resistance: 20 mOhm; ComponentLink1Description: Manufacturer; ComponentLink1URL: http://www.we-online.de; ComponentLink2Description: Datasheet; ComponentLink2URL: https://katalog.we-online.de/em/datasheet/621044242921.pdf; Published Date: August 2018; Publisher: Wurth Elektronik; Operating Temperature: -40 to 105 degC; Mounting Technology: SMT; Packaging: Tube; Row Number: Dual; Orientation: Vertical
footprint 621044242921
pins: 1, 2, 3, 4, 5, 6, 7, 8, 9, 10, 11, 12, 13, 14, 15, 16, 17, 18, 19, 20, 21, 22, 23, 24, 25, 26, 27, 28, 29, 30, 31, 32, 33, 34, 35, 36, 37, 38, 39, 40, 41, 42, 43, 44

## 621104284621
designator J?
SMT Angled Socket Header WR-PHD, Pitch 2.00 mm, Dual Row, 4 pins; Part Number: 621104284621; Pin Number: 4; Pitch: 2.00 mm; Gender: Female; Rated Current: 2 A; Working Voltage: 250 VAC; Withstanding Voltage: 500 VAC; Contact Resistance: 20 mOhm; ComponentLink1Description: Manufacturer; ComponentLink1URL: http://www.we-online.de; ComponentLink2Description: Datasheet; ComponentLink2URL: https://katalog.we-online.de/em/datasheet/621104284621.pdf; Published Date: August 2018; Publisher: Wurth Elektronik; Operating Temperature: -40 to 105 degC; Mounting Technology: SMT; Packaging: Tape and Reel; Row Number: Dual; Orientation: Angled
footprint 621104284621
pins: 1, 2, 3, 4

## 621106284621
designator J?
SMT Angled Socket Header WR-PHD, Pitch 2.00 mm, Dual Row, 6 pins; Part Number: 621106284621; Pin Number: 6; Pitch: 2.00 mm; Gender: Female; Rated Current: 2 A; Working Voltage: 250 VAC; Withstanding Voltage: 500 VAC; Contact Resistance: 20 mOhm; ComponentLink1Description: Manufacturer; ComponentLink1URL: http://www.we-online.de; ComponentLink2Description: Datasheet; ComponentLink2URL: https://katalog.we-online.de/em/datasheet/621106284621.pdf; Published Date: August 2018; Publisher: Wurth Elektronik; Operating Temperature: -40 to 105 degC; Mounting Technology: SMT; Packaging: Tape and Reel; Row Number: Dual; Orientation: Angled
footprint 621106284621
pins: 1, 2, 3, 4, 5, 6

## 621108284621
designator J?
SMT Angled Socket Header WR-PHD, Pitch 2.00 mm, Dual Row, 8 pins; Part Number: 621108284621; Pin Number: 8; Pitch: 2.00 mm; Gender: Female; Rated Current: 2 A; Working Voltage: 250 VAC; Withstanding Voltage: 500 VAC; Contact Resistance: 20 mOhm; ComponentLink1Description: Manufacturer; ComponentLink1URL: http://www.we-online.de; ComponentLink2Description: Datasheet; ComponentLink2URL: https://katalog.we-online.de/em/datasheet/621108284621.pdf; Published Date: August 2018; Publisher: Wurth Elektronik; Operating Temperature: -40 to 105 degC; Mounting Technology: SMT; Packaging: Tape and Reel; Row Number: Dual; Orientation: Angled
footprint 621108284621
pins: 1, 2, 3, 4, 5, 6, 7, 8

## 621110284621
designator J?
SMT Angled Socket Header WR-PHD, Pitch 2.00 mm, Dual Row, 10 pins; Part Number: 621110284621; Pin Number: 10; Pitch: 2.00 mm; Gender: Female; Rated Current: 2 A; Working Voltage: 250 VAC; Withstanding Voltage: 500 VAC; Contact Resistance: 20 mOhm; ComponentLink1Description: Manufacturer; ComponentLink1URL: http://www.we-online.de; ComponentLink2Description: Datasheet; ComponentLink2URL: https://katalog.we-online.de/em/datasheet/621110284621.pdf; Published Date: August 2018; Publisher: Wurth Elektronik; Operating Temperature: -40 to 105 degC; Mounting Technology: SMT; Packaging: Tape and Reel; Row Number: Dual; Orientation: Angled
footprint 621110284621
pins: 1, 2, 3, 4, 5, 6, 7, 8, 9, 10

## 621112284621
designator J?
SMT Angled Socket Header WR-PHD, Pitch 2.00 mm, Dual Row, 12 pins; Part Number: 621112284621; Pin Number: 12; Pitch: 2.00 mm; Gender: Female; Rated Current: 2 A; Working Voltage: 250 VAC; Withstanding Voltage: 500 VAC; Contact Resistance: 20 mOhm; ComponentLink1Description: Manufacturer; ComponentLink1URL: http://www.we-online.de; ComponentLink2Description: Datasheet; ComponentLink2URL: https://katalog.we-online.de/em/datasheet/621112284621.pdf; Published Date: August 2018; Publisher: Wurth Elektronik; Operating Temperature: -40 to 105 degC; Mounting Technology: SMT; Packaging: Tape and Reel; Row Number: Dual; Orientation: Angled
footprint 621112284621
pins: 1, 2, 3, 4, 5, 6, 7, 8, 9, 10, 11, 12

## 621114284621
designator J?
SMT Angled Socket Header WR-PHD, Pitch 2.00 mm, Dual Row, 14 pins; Part Number: 621114284621; Pin Number: 14; Pitch: 2.00 mm; Gender: Female; Rated Current: 2 A; Working Voltage: 250 VAC; Withstanding Voltage: 500 VAC; Contact Resistance: 20 mOhm; ComponentLink1Description: Manufacturer; ComponentLink1URL: http://www.we-online.de; ComponentLink2Description: Datasheet; ComponentLink2URL: https://katalog.we-online.de/em/datasheet/621114284621.pdf; Published Date: August 2018; Publisher: Wurth Elektronik; Operating Temperature: -40 to 105 degC; Mounting Technology: SMT; Packaging: Tape and Reel; Row Number: Dual; Orientation: Angled
footprint 621114284621
pins: 1, 2, 3, 4, 5, 6, 7, 8, 9, 10, 11, 12, 13, 14

## 621116284621
designator J?
SMT Angled Socket Header WR-PHD, Pitch 2.00 mm, Dual Row, 16 pins; Part Number: 621116284621; Pin Number: 16; Pitch: 2.00 mm; Gender: Female; Rated Current: 2 A; Working Voltage: 250 VAC; Withstanding Voltage: 500 VAC; Contact Resistance: 20 mOhm; ComponentLink1Description: Manufacturer; ComponentLink1URL: http://www.we-online.de; ComponentLink2Description: Datasheet; ComponentLink2URL: https://katalog.we-online.de/em/datasheet/621116284621.pdf; Published Date: August 2018; Publisher: Wurth Elektronik; Operating Temperature: -40 to 105 degC; Mounting Technology: SMT; Packaging: Tape and Reel; Row Number: Dual; Orientation: Angled
footprint 621116284621
pins: 1, 2, 3, 4, 5, 6, 7, 8, 9, 10, 11, 12, 13, 14, 15, 16

## 621120284621
designator J?
SMT Angled Socket Header WR-PHD, Pitch 2.00 mm, Dual Row, 20 pins; Part Number: 621120284621; Pin Number: 20; Pitch: 2.00 mm; Gender: Female; Rated Current: 2 A; Working Voltage: 250 VAC; Withstanding Voltage: 500 VAC; Contact Resistance: 20 mOhm; ComponentLink1Description: Manufacturer; ComponentLink1URL: http://www.we-online.de; ComponentLink2Description: Datasheet; ComponentLink2URL: https://katalog.we-online.de/em/datasheet/621120284621.pdf; Published Date: August 2018; Publisher: Wurth Elektronik; Operating Temperature: -40 to 105 degC; Mounting Technology: SMT; Packaging: Tape and Reel; Row Number: Dual; Orientation: Angled
footprint 621120284621
pins: 1, 2, 3, 4, 5, 6, 7, 8, 9, 10, 11, 12, 13, 14, 15, 16, 17, 18, 19, 20

## 621304242921
designator J?
SMT Vertical Socket Header WR-PHD, Pitch 2.00 mm, Dual Row, 4 pins; Part Number: 621304242921; Pin Number: 4; Pitch: 2.00 mm; Gender: Female; Rated Current: 2 A; Working Voltage: 250 VAC; Withstanding Voltage: 500 VAC; Contact Resistance: 20 mOhm; ComponentLink1Description: Manufacturer; ComponentLink1URL: http://www.we-online.de; ComponentLink2Description: Datasheet; ComponentLink2URL: https://katalog.we-online.de/em/datasheet/621304242921.pdf; Published Date: August 2018; Publisher: Wurth Elektronik; Operating Temperature: -40 to 105 degC; Mounting Technology: SMT; Packaging: Tape and Reel; Row Number: Dual; Orientation: Vertical
footprint 621304242921
pins: 1, 2, 3, 4

## 621306242921
designator J?
SMT Vertical Socket Header WR-PHD, Pitch 2.00 mm, Dual Row, 6 pins; Part Number: 621306242921; Pin Number: 6; Pitch: 2.00 mm; Gender: Female; Rated Current: 2 A; Working Voltage: 250 VAC; Withstanding Voltage: 500 VAC; Contact Resistance: 20 mOhm; ComponentLink1Description: Manufacturer; ComponentLink1URL: http://www.we-online.de; ComponentLink2Description: Datasheet; ComponentLink2URL: https://katalog.we-online.de/em/datasheet/621306242921.pdf; Published Date: August 2018; Publisher: Wurth Elektronik; Operating Temperature: -40 to 105 degC; Mounting Technology: SMT; Packaging: Tape and Reel; Row Number: Dual; Orientation: Vertical
footprint 621306242921
pins: 1, 2, 3, 4, 5, 6

## 621308242921
designator J?
SMT Vertical Socket Header WR-PHD, Pitch 2.00 mm, Dual Row, 8 pins; Part Number: 621308242921; Pin Number: 8; Pitch: 2.00 mm; Gender: Female; Rated Current: 2 A; Working Voltage: 250 VAC; Withstanding Voltage: 500 VAC; Contact Resistance: 20 mOhm; ComponentLink1Description: Manufacturer; ComponentLink1URL: http://www.we-online.de; ComponentLink2Description: Datasheet; ComponentLink2URL: https://katalog.we-online.de/em/datasheet/621308242921.pdf; Published Date: August 2018; Publisher: Wurth Elektronik; Operating Temperature: -40 to 105 degC; Mounting Technology: SMT; Packaging: Tape and Reel; Row Number: Dual; Orientation: Vertical
footprint 621308242921
pins: 1, 2, 3, 4, 5, 6, 7, 8

## 621310242921
designator J?
SMT Vertical Socket Header WR-PHD, Pitch 2.00 mm, Dual Row, 10 pins; Part Number: 621310242921; Pin Number: 10; Pitch: 2.00 mm; Gender: Female; Rated Current: 2 A; Working Voltage: 250 VAC; Withstanding Voltage: 500 VAC; Contact Resistance: 20 mOhm; ComponentLink1Description: Manufacturer; ComponentLink1URL: http://www.we-online.de; ComponentLink2Description: Datasheet; ComponentLink2URL: https://katalog.we-online.de/em/datasheet/621310242921.pdf; Published Date: August 2018; Publisher: Wurth Elektronik; Operating Temperature: -40 to 105 degC; Mounting Technology: SMT; Packaging: Tape and Reel; Row Number: Dual; Orientation: Vertical
footprint 621310242921
pins: 1, 2, 3, 4, 5, 6, 7, 8, 9, 10

## 621314242921
designator J?
SMT Vertical Socket Header WR-PHD, Pitch 2.00 mm, Dual Row, 14 pins; Part Number: 621314242921; Pin Number: 14; Pitch: 2.00 mm; Gender: Female; Rated Current: 2 A; Working Voltage: 250 VAC; Withstanding Voltage: 500 VAC; Contact Resistance: 20 mOhm; ComponentLink1Description: Manufacturer; ComponentLink1URL: http://www.we-online.de; ComponentLink2Description: Datasheet; ComponentLink2URL: https://katalog.we-online.de/em/datasheet/621314242921.pdf; Published Date: August 2018; Publisher: Wurth Elektronik; Operating Temperature: -40 to 105 degC; Mounting Technology: SMT; Packaging: Tape and Reel; Row Number: Dual; Orientation: Vertical
footprint 621314242921
pins: 1, 2, 3, 4, 5, 6, 7, 8, 9, 10, 11, 12, 13, 14

## 621316242921
designator J?
SMT Vertical Socket Header WR-PHD, Pitch 2.00 mm, Dual Row, 16 pins; Part Number: 621316242921; Pin Number: 16; Pitch: 2.00 mm; Gender: Female; Rated Current: 2 A; Working Voltage: 250 VAC; Withstanding Voltage: 500 VAC; Contact Resistance: 20 mOhm; ComponentLink1Description: Manufacturer; ComponentLink1URL: http://www.we-online.de; ComponentLink2Description: Datasheet; ComponentLink2URL: https://katalog.we-online.de/em/datasheet/621316242921.pdf; Published Date: August 2018; Publisher: Wurth Elektronik; Operating Temperature: -40 to 105 degC; Mounting Technology: SMT; Packaging: Tape and Reel; Row Number: Dual; Orientation: Vertical
footprint 621316242921
pins: 1, 2, 3, 4, 5, 6, 7, 8, 9, 10, 11, 12, 13, 14, 15, 16

## 621320242921
designator J?
SMT Vertical Socket Header WR-PHD, Pitch 2.00 mm, Dual Row, 20 pins; Part Number: 621320242921; Pin Number: 20; Pitch: 2.00 mm; Gender: Female; Rated Current: 2 A; Working Voltage: 250 VAC; Withstanding Voltage: 500 VAC; Contact Resistance: 20 mOhm; ComponentLink1Description: Manufacturer; ComponentLink1URL: http://www.we-online.de; ComponentLink2Description: Datasheet; ComponentLink2URL: https://katalog.we-online.de/em/datasheet/621320242921.pdf; Published Date: August 2018; Publisher: Wurth Elektronik; Operating Temperature: -40 to 105 degC; Mounting Technology: SMT; Packaging: Tape and Reel; Row Number: Dual; Orientation: Vertical
footprint 621320242921
pins: 1, 2, 3, 4, 5, 6, 7, 8, 9, 10, 11, 12, 13, 14, 15, 16, 17, 18, 19, 20

## 621324242921
designator J?
SMT Vertical Socket Header WR-PHD, Pitch 2.00 mm, Dual Row, 24 pins; Part Number: 621324242921; Pin Number: 24; Pitch: 2.00 mm; Gender: Female; Rated Current: 2 A; Working Voltage: 250 VAC; Withstanding Voltage: 500 VAC; Contact Resistance: 20 mOhm; ComponentLink1Description: Manufacturer; ComponentLink1URL: http://www.we-online.de; ComponentLink2Description: Datasheet; ComponentLink2URL: https://katalog.we-online.de/em/datasheet/621324242921.pdf; Published Date: August 2018; Publisher: Wurth Elektronik; Operating Temperature: -40 to 105 degC; Mounting Technology: SMT; Packaging: Tape and Reel; Row Number: Dual; Orientation: Vertical
footprint 621324242921
pins: 1, 2, 3, 4, 5, 6, 7, 8, 9, 10, 11, 12, 13, 14, 15, 16, 17, 18, 19, 20, 21, 22, 23, 24

## 621344242921
designator J?
SMT Vertical Socket Header WR-PHD, Pitch 2.00 mm, Dual Row, 44 pins; Part Number: 621344242921; Pin Number: 44; Pitch: 2.00 mm; Gender: Female; Rated Current: 2 A; Working Voltage: 250 VAC; Withstanding Voltage: 500 VAC; Contact Resistance: 20 mOhm; ComponentLink1Description: Manufacturer; ComponentLink1URL: http://www.we-online.de; ComponentLink2Description: Datasheet; ComponentLink2URL: https://katalog.we-online.de/em/datasheet/621344242921.pdf; Published Date: August 2018; Publisher: Wurth Elektronik; Operating Temperature: -40 to 105 degC; Mounting Technology: SMT; Packaging: Tape and Reel; Row Number: Dual; Orientation: Vertical
footprint 621344242921
pins: 1, 2, 3, 4, 5, 6, 7, 8, 9, 10, 11, 12, 13, 14, 15, 16, 17, 18, 19, 20, 21, 22, 23, 24, 25, 26, 27, 28, 29, 30, 31, 32, 33, 34, 35, 36, 37, 38, 39, 40, 41, 42, 43, 44